# Altium schematic symbol library SCH - POWER - LINEAR VREG - TI TLV74333PDQN.SchLib: 1 symbol
Pins are listed as number, name and electrical type; pins without a type are passive.

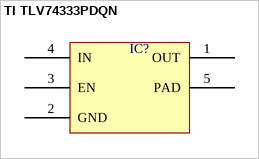
[diagram p0: symbol TI TLV74333PDQN]

## TI TLV74333PDQN
designator IC?  (value not drawn)
pins: 1 OUT, 2 GND, 3 EN, 4 IN, 5 PAD